# EAGLE library part SWITCH-DP3T (library dhgoldberg)
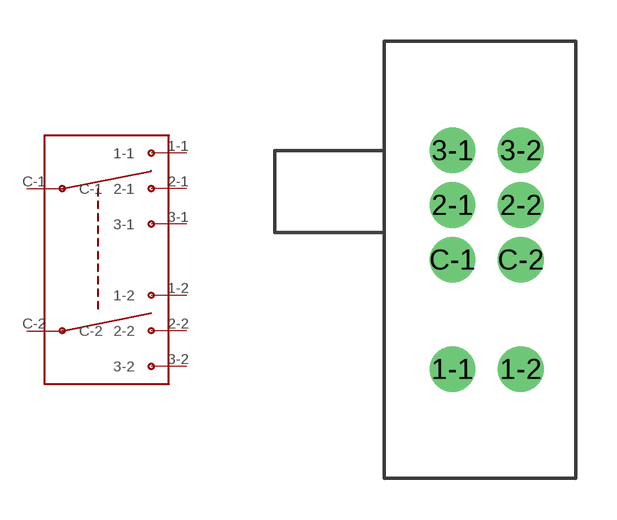
[diagram p1: symbol with the pads of DP3T-MMS23R; footprint DP3T-MMS23R]

Designator prefix -

## SWITCH-DP3T  [DP3T-MMS23R]
1-1  1-1
1-2  1-2
2-1  2-1
2-2  2-2
3-1  3-1
3-2  3-2
C-1  C-1
C-2  C-2

## Footprint DP3T-MMS23R (pad centres in mm)
drill 0.9 pad 1.676: 1-1 0,-8; 1-2 2.5,-8; 2-1 0,-2; 2-2 2.5,-2; 3-1 0,0; 3-2 2.5,0; C-1 0,-4; C-2 2.5,-4